# EAGLE library part HC595 (library uClouds_SE_Library)
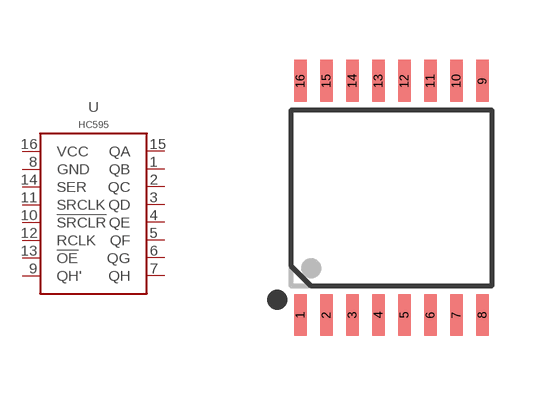
[diagram p0: symbol with the pads of TSSOP-16; footprint TSSOP-16]

Designator prefix U

## HC595  [TSSOP-16]
1  QB
2  QC
3  QD
4  QE
5  QF
6  QG
7  QH
8  GND
9  QH'
10  !SRCLR
11  SRCLK
12  RCLK
13  !OE
14  SER
15  QA
16  VCC

## Footprint TSSOP-16 (pad centres in mm)
smd 0.32 x 1.05: 1 -2.275,-2.925; 2 -1.625,-2.925; 3 -0.975,-2.925; 4 -0.325,-2.925; 5 0.325,-2.925; 6 0.975,-2.925; 7 1.625,-2.925; 8 2.275,-2.925; 9 2.275,2.925; 10 1.625,2.925; 11 0.975,2.925; 12 0.325,2.925; 13 -0.325,2.925; 14 -0.975,2.925; 15 -1.625,2.925; 16 -2.275,2.925